# EAGLE library part KINGBRIGHT_DC-20/20 (library SKAARHOJ)
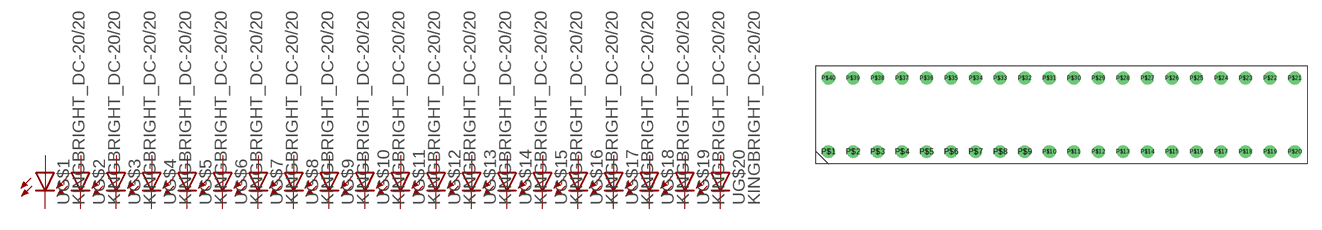
[diagram p94: symbol with the pads of DIL2X20; footprint DIL2X20]

Designator prefix -; gates G$1=LED G$2=LED G$3=LED G$4=LED G$5=LED G$6=LED G$7=LED G$8=LED G$9=LED G$10=LED G$11=LED G$12=LED G$13=LED G$14=LED G$15=LED G$16=LED G$17=LED G$18=LED G$19=LED G$20=LED

## KINGBRIGHT_DC-20/20  [DIL2X20]
P$1  G$1:A  pas
P$2  G$2:A  pas
P$3  G$3:A  pas
P$4  G$4:A  pas
P$5  G$5:A  pas
P$6  G$6:A  pas
P$7  G$7:A  pas
P$8  G$8:A  pas
P$9  G$9:A  pas
P$10  G$10:A  pas
P$11  G$11:A  pas
P$12  G$12:A  pas
P$13  G$13:A  pas
P$14  G$14:A  pas
P$15  G$15:A  pas
P$16  G$16:A  pas
P$17  G$17:A  pas
P$18  G$18:A  pas
P$19  G$19:A  pas
P$20  G$20:A  pas
P$21  G$20:C  pas
P$22  G$19:C  pas
P$23  G$18:C  pas
P$24  G$17:C  pas
P$25  G$16:C  pas
P$26  G$15:C  pas
P$27  G$14:C  pas
P$28  G$13:C  pas
P$29  G$12:C  pas
P$30  G$11:C  pas
P$31  G$10:C  pas
P$32  G$9:C  pas
P$33  G$8:C  pas
P$34  G$7:C  pas
P$35  G$6:C  pas
P$36  G$5:C  pas
P$37  G$4:C  pas
P$38  G$3:C  pas
P$39  G$2:C  pas
P$40  G$1:C  pas

## Footprint DIL2X20 (pad centres in mm)
drill 0.8: P$1 -24.13,-3.81; P$2 -21.59,-3.81; P$3 -19.05,-3.81; P$4 -16.51,-3.81; P$5 -13.97,-3.81; P$6 -11.43,-3.81; P$7 -8.89,-3.81; P$8 -6.35,-3.81; P$9 -3.81,-3.81; P$10 -1.27,-3.81; P$11 1.27,-3.81; P$12 3.81,-3.81; P$13 6.35,-3.81; P$14 8.89,-3.81; P$15 11.43,-3.81; P$16 13.97,-3.81; P$17 16.51,-3.81; P$18 19.05,-3.81; P$19 21.59,-3.81; P$20 24.13,-3.81; P$21 24.13,3.81; P$22 21.59,3.81; P$23 19.05,3.81; P$24 16.51,3.81; P$25 13.97,3.81; P$26 11.43,3.81; P$27 8.89,3.81; P$28 6.35,3.81; P$29 3.81,3.81; P$30 1.27,3.81; P$31 -1.27,3.81; P$32 -3.81,3.81; P$33 -6.35,3.81; P$34 -8.89,3.81; P$35 -11.43,3.81; P$36 -13.97,3.81; P$37 -16.51,3.81; P$38 -19.05,3.81; P$39 -21.59,3.81; P$40 -24.13,3.81